# EAGLE library part IC_PCF8570 (library akita)
Serial RAM
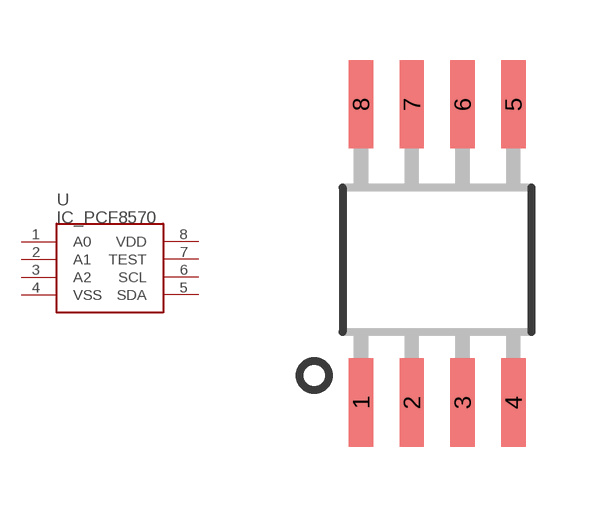
[diagram p8: symbol with the pads of SOIC8W; footprint SOIC8W]

Designator prefix U

## IC_PCF8570  [SOIC8W]
1  A0  in
2  A1  in
3  A2  in
4  VSS  pwr
5  SDA
6  SCL
7  TEST  in
8  VDD  pwr

## Footprint SOIC8W (pad centres in mm)
smd 0.61 x 2.21: 1 -1.905,-3.569; 2 -0.635,-3.569; 3 0.635,-3.569; 4 1.905,-3.569; 5 1.905,3.886; 6 0.635,3.886; 7 -0.635,3.886; 8 -1.905,3.886